# EAGLE library part OLED128X64SIDE (library SparkFun-Displays)
Micro OLED TODO: Add description SparkFun Products: Product <https://www.sparkfun.com/products/13003>
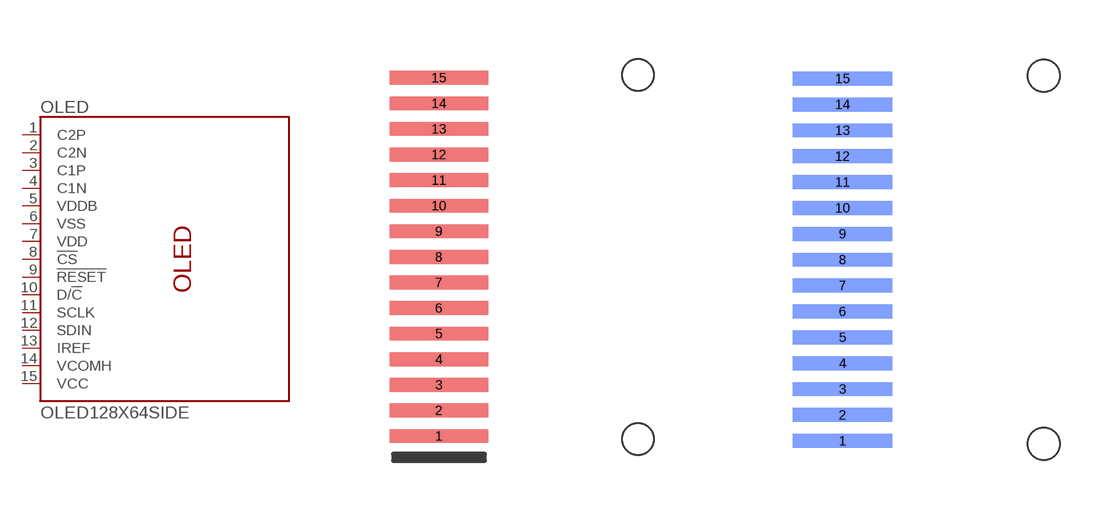
[diagram p4: symbol with the pads of OLED-UG-2832TSWGG01; footprints OLED-UG-2832TSWGG01, OLED-UG-2832TSWGG01-REAR]

Designator prefix OLED

## OLED128X64SIDE (PROD_ID: LCD-13577; VALUE: 32x128 OLED)  [OLED-UG-2832TSWGG01]
1  C2P
2  C2N
3  C1P
4  C1N
5  VDDB
6  VSS
7  VDD
8  !CS!
9  !RESET!
10  D/!C!
11  SCLK
12  SDIN
13  IREF
14  VCOMH
15  VCC

## OLED128X64SIDEREAR-MOUNT (PROD_ID: LCD-13577; VALUE: 32x128 OLED)  [OLED-UG-2832TSWGG01-REAR]
Pads as for OLED-UG-2832TSWGG01

## Footprint OLED-UG-2832TSWGG01 (pad centres in mm)
OLDE display Specifications: Pin count: 30 Pin pitch: 0.7mm Area: Datasheet referenced for footprint: Example device(s): Microview breakout <https://www.sparkfun.com/products/13003>
smd 2.5 x 0.35: 1 0.75,-10.175; 2 0.75,-9.525; 3 0.75,-8.875; 4 0.75,-8.225; 5 0.75,-7.575; 6 0.75,-6.925; 7 0.75,-6.275; 8 0.75,-5.625; 9 0.75,-4.975; 10 0.75,-4.325; 11 0.75,-3.675; 12 0.75,-3.025; 13 0.75,-2.375; 14 0.75,-1.725; 15 0.75,-1.075
hole 0.8 at 5.8,-1
hole 0.8 at 5.8,-10.25

## Footprint OLED-UG-2832TSWGG01-REAR (pad centres in mm)
OLDE display Specifications: Pin count: 30 Pin pitch: 0.7mm Area: Datasheet referenced for footprint: Example device(s): Microview breakout <https://www.sparkfun.com/products/13003>
smd 2.5 x 0.35 bottom: 1 0.75,-10.175; 2 0.75,-9.525; 3 0.75,-8.875; 4 0.75,-8.225; 5 0.75,-7.575; 6 0.75,-6.925; 7 0.75,-6.275; 8 0.75,-5.625; 9 0.75,-4.975; 10 0.75,-4.325; 11 0.75,-3.675; 12 0.75,-3.025; 13 0.75,-2.375; 14 0.75,-1.725; 15 0.75,-1.075
hole 0.8 at 5.8,-1
hole 0.8 at 5.8,-10.25